# Altium integrated library MJ2955.IntLib: 1 symbol
Pins are listed as number, name and electrical type; pins without a type are passive.

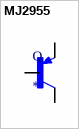
[diagram p0: symbol MJ2955]

## MJ2955
designator Q
Bipolar _BJT_ Transistor PNP 60V 15A 115W Chassis Mount TO-3; MF: STMicroelectronics; MP: MJ2955; SnapEDA_Link: https://www.snapeda.com/parts/MJ2955/STMicroelectronics/view-part/1262668/?ref=snap; Price: None; Value: *; Availability: Unavailable; Package: TO-3 NTE Electronics
footprint TO3
pins: B, C, C/ C, E